# Altium footprint library button.PcbLib: 1 footprints
Each footprint in its own frame and in the unit in brackets; x right, y up, seen from the top. Pads: shape width x height; smd on the part's side, far side on the other; paste and mask are expansions set on the pad; w line width, h text height; cw(c..) or ccw(c..) is an arc to the next point about the centre after c.
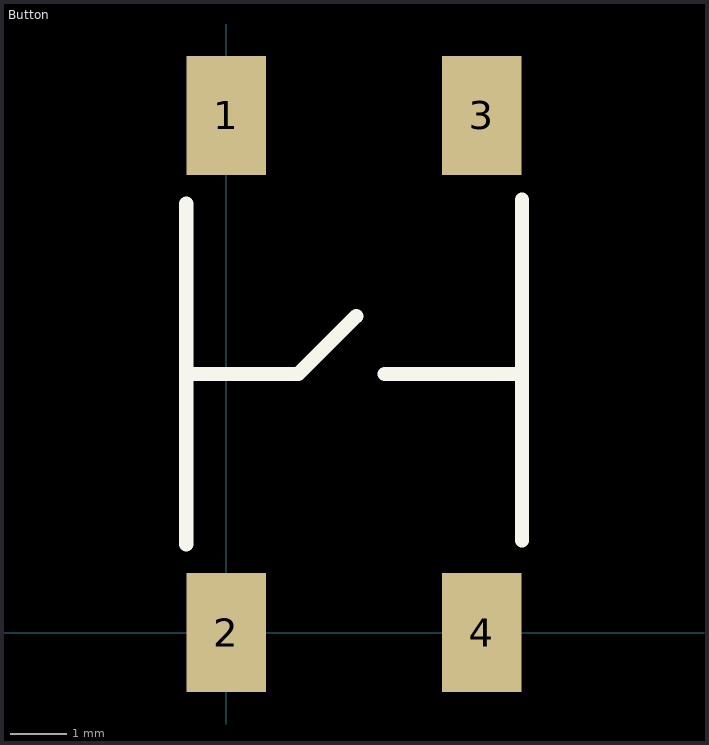
[diagram p0: the footprint, top view; thin cyan lines are the x and y axes]

## Button [mm] "copied from 256 SoG"
pads (4):
  rect 1.4x2.1 smd: 1(0,9.1) 2(0,0) 3(4.5,9.1) 4(4.5,0)
Top Overlay:
  lines w0.254: -0.7,1.55 -0.7,7.55 ; -0.7,4.55 1.27,4.55 2.286,5.566 ; 2.794,4.55 5.207,4.55 ; 5.207,1.62 5.207,7.62